# EAGLE library part 749020023A (library WE-LAN)
WE-LAN LAN Transformer Characteristics Suitable for industrial temperatures from –40 °C up to +125 °C Different version available from 1.5 kV isolation to 6 kV. HPLE version Additional CMC for higher attenuation Non PoE, PoE and PoE++ up to 2 A PoE up to 150 W and speeds up to 1 Gbit/s Available in SMT Compliant with standards: IEEE 802.3u, IEEE 802.3ab, IEEE 802.3af, IEEE 802.3at and IEEE 802.3bt UL Recognized Applications Compatible to Industrial Ethernet systems like EtherCAT or Profinet Compliant with most IC’s for Ethernet applications such as Microchip, Texas Instruments, Broadcom, Linear Technology Router, switches, sensors, robotics, automation, IP cameras, IoT applications Details see: www.we-online.com/en/components/products/WE-LAN Updated by Ella Wu 2024-03-21 2024 (C) Würth Elektronik
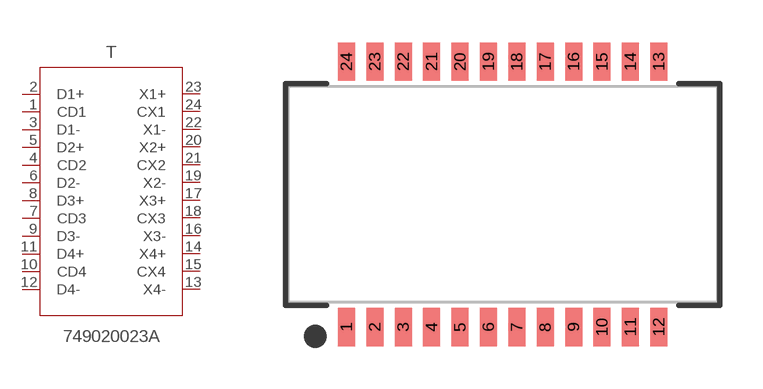
[diagram p25: symbol with the pads of 749020023A; footprint 749020023A]

Designator prefix T

## 749020023A (DATA-RATE: 1000BASE-T; DATASHEET: https://www.we-online.com/redexpert/spec/749020023A?ae; HPLE: No; IMPROVED-CMRR: No; L: 350 uH; MOUNT: SMT; OPERATING-TEMPERATURE: -40 °C up to +105 °C; PART-NUMBER: 749020023A; POE: non-PoE; PORTS: 1; VALUE: 749020023A; VT: 1500 V (RMS))  [749020023A]
1  CD1  pas
2  D1+  pas
3  D1-  pas
4  CD2  pas
5  D2+  pas
6  D2-  pas
7  CD3  pas
8  D3+  pas
9  D3-  pas
10  CD4  pas
11  D4+  pas
12  D4-  pas
13  X4-  pas
14  X4+  pas
15  CX4  pas
16  X3-  pas
17  X3+  pas
18  CX3  pas
19  X2-  pas
20  X2+  pas
21  CX2  pas
22  X1-  pas
23  X1+  pas
24  CX1  pas

## Footprint 749020023A (pad centres in mm)
WE-LAN LAN Transformer 1000BASE-T, 1Port, SMT
smd 0.6 x 1.35: 1 -5.5,-4.675; 2 -4.5,-4.675; 3 -3.5,-4.675; 4 -2.5,-4.675; 5 -1.5,-4.675; 6 -0.5,-4.675; 7 0.5,-4.675; 8 1.5,-4.675; 9 2.5,-4.675; 10 3.5,-4.675; 11 4.5,-4.675; 12 5.5,-4.675; 13 5.5,4.675; 14 4.5,4.675; 15 3.5,4.675; 16 2.5,4.675; 17 1.5,4.675; 18 0.5,4.675; 19 -0.5,4.675; 20 -1.5,4.675; 21 -2.5,4.675; 22 -3.5,4.675; 23 -4.5,4.675; 24 -5.5,4.675